# Altium footprint library LPC55S69_MINI [B].PcbLib: 22 footprints (part 2 of 2)
Each footprint in its own frame and in the unit in brackets; x right, y up, seen from the top. Pads: shape width x height; smd on the part's side, far side on the other; paste and mask are expansions set on the pad; w line width, h text height; cw(c..) or ccw(c..) is an arc to the next point about the centre after c.
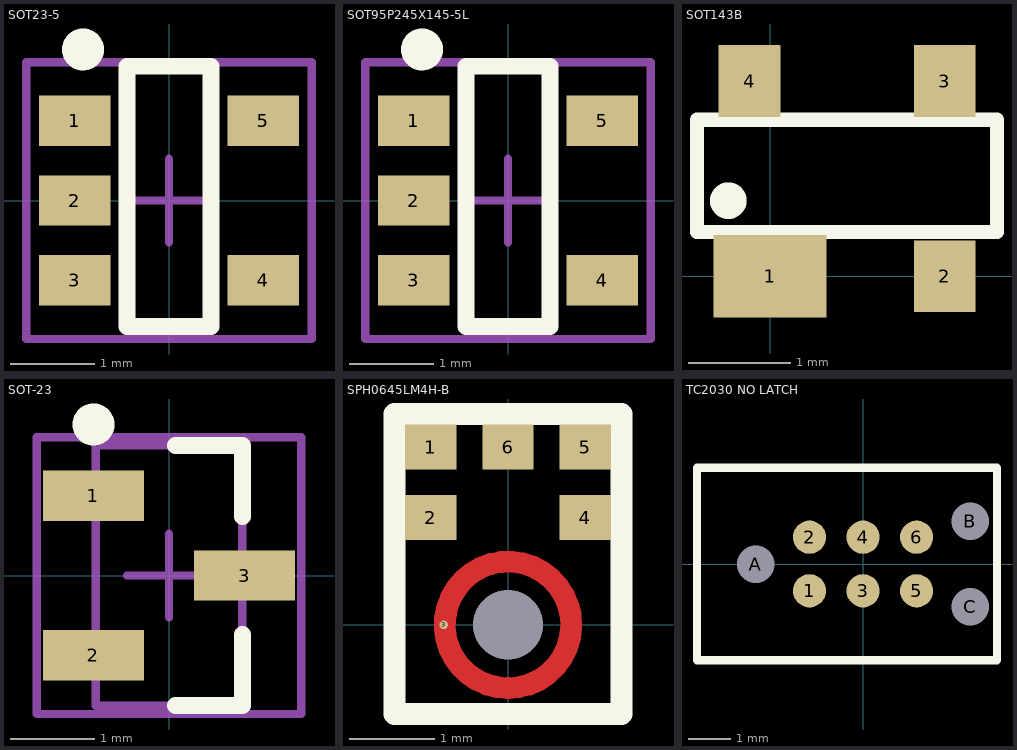
[diagram p1: the footprints below, top view; thin cyan lines are the x and y axes]

## SOT23-5 [mm] "SOT23, 5-Leads, Body 3.1x2.6mm (max), Pitch 0.95mm, IPC High Density"
height 1.45
pads (5):
  rect 0.85x0.6 smd: 1(-1.125,0.95) 2(-1.125,0) 3(-1.125,-0.95) 4(1.125,-0.95) 5(1.125,0.95)
Top Overlay:
  circle w0.25: c-1.025,1.8 r0.125
  lines w0.2: -0.5,-1.5 -0.5,1.6 0.5,1.6 0.5,-1.5 -0.5,-1.5
Mechanical 15:
  lines w0.1: -0.5,0 0.5,0 ; 0,-0.5 0,0.5 ; -1.7,-1.65 1.7,-1.65 1.7,1.65 -1.7,1.65 -1.7,-1.65
3D body "ct-sot-23-5.stp": height 1.15, standoff -0.03, extent -1.379,-1.45 1.321,1.45

## SOT95P245X145-5L [mm] "SOT23, 5-Leads, Body 3.1x2.6mm (max), Pitch 0.95mm, IPC High Density"
height 1.45
pads (5):
  rect 0.85x0.6 smd: 1(-1.125,0.95) 2(-1.125,0) 3(-1.125,-0.95) 4(1.125,-0.95) 5(1.125,0.95)
Top Overlay:
  circle w0.25: c-1.025,1.8 r0.125
  lines w0.2: -0.5,-1.5 -0.5,1.6 0.5,1.6 0.5,-1.5 -0.5,-1.5
Mechanical 15:
  lines w0.1: -0.5,0 0.5,0 ; 0,-0.5 0,0.5 ; -1.7,-1.65 1.7,-1.65 1.7,1.65 -1.7,1.65 -1.7,-1.65
3D body "ct-sot-23-5.stp": height 1.15, standoff -0.03, extent -1.379,-1.45 1.321,1.45

## SOT143B [mm] "SOT143B"
height 1.1
pads (4):
  rect 1.1x0.8 smd: 1(0,0)
  rect 0.6x0.7 smd: 2(1.702,0) 3(1.702,1.9) 4(-0.2,1.9)
Top Overlay:
  circle w0.254: c-0.406,0.737 r0.051
  lines w0.14: -0.711,0.432 -0.711,1.524 2.21,1.524 2.21,0.432 -0.711,0.432
3D body "User Library-sot143.step": height 1, standoff 0, extent -0.698,-0.27 2.222,2.15

## SOT-23 [mm] "SOT-23"
height 1.6
pads (3):
  rect 1.2x0.6 smd: 1(-0.9,0.95) 2(-0.9,-0.95) 3(0.9,0)
Top Overlay:
  circle w0.25: c-0.9,1.8 r0.125
  lines w0.2: 0.075,-1.55 0.875,-1.55 0.875,-0.7 ; 0.075,1.55 0.875,1.55 0.875,0.7
Mechanical 13:
  lines w0.1: -0.875,-1.55 0.875,-1.55 0.875,1.55 -0.875,1.55 -0.875,-1.55
Mechanical 15:
  lines w0.1: -0.5,0 0.5,0 ; 0,-0.5 0,0.5 ; -1.575,-1.65 1.575,-1.65 1.575,1.65 -1.575,1.65 -1.575,-1.65
3D body "SW3DPS-SOT-23-DEFAULT.STEP": height 1.07, standoff -0.03, extent -1.27,-1.5 1.23,1.5

## SPH0645LM4H-B [mm]
height 1.6
pads (7):
  rect 0.6x0.522 smd: 1(-0.9,2.074) 2(-0.9,1.252) 4(0.9,1.252) 5(0.9,2.074) 6(0,2.074)
  round 0.1 smd paste-100 mask+0: 3(-0.75,0)
  round 0 hole 0.813 paste-25.4: PORT_HOLE(0,0)
Top Layer:
  lines w0.254: -0.083,0.734 ccw(c0,0) 0,-0.738 ccw(c0,0) -0.083,0.734
Top Overlay:
  lines w0.254: -1.325,-1.04 1.325,-1.04 1.325,2.46 -1.325,2.46 -1.325,-1.04
Top Paste:
  lines w0.254: -0.693,-0.252 ccw(c0,0) -0.252,-0.693 ; -0.693,0.252 cw(c0,0) -0.252,0.693 ; 0.252,-0.693 ccw(c0,0) 0.693,-0.252 ; 0.252,0.693 cw(c0,0) 0.693,0.252
3D body: height 1, standoff 0.05, extent -1.325,-1.025 1.325,2.45

## TC2030 NO LATCH [mil] "TC2030  NO LATCH"
height 62.99
pads (9):
  round 31 smd paste-40: 1(-50,-25) 2(-50,25) 3(0,-25) 4(0,25) 5(50,-25) 6(50,25)
  round 34 hole 35 unplated: A(-100,0) B(100,40) C(100,-40)
Top Overlay:
  lines w7.87: -155,-90 125,-90 125,90 -155,90 -155,-90